# Altium schematic symbol library NKK Switch.SchLib: 1 symbol
Pins are listed as number, name and electrical type; pins without a type are passive.

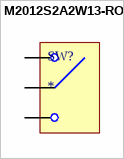
[diagram p0: symbol M2012S2A2W13-RO]

## M2012S2A2W13-RO
designator SW?
SWITCH TOGGLE SPDT 6A VERT PC
footprint M2012S2A2W13-RO (SWITCH TOGGLE SPDT 6A VERT PC)
pins: 1, 2, 3